# EAGLE library part MA03-2 (library JeeLabs)
PIN HEADER
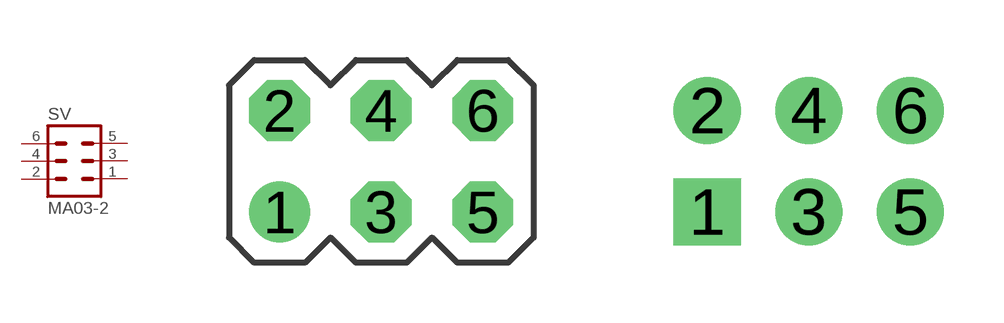
[diagram p13: symbol with the pads of MA03-2; footprints MA03-2, MA03-2-0.8]

Designator prefix SV

## MA03-2  [MA03-2]
1  1  pas
2  2  pas
3  3  pas
4  4  pas
5  5  pas
6  6  pas

## MA03-2S  [MA03-2-0.8]
Pads as for MA03-2

## Footprint MA03-2 (pad centres in mm)
PIN HEADER
drill 1.016: 1 -2.54,-1.27
drill 1.016 octagon: 2 -2.54,1.27; 3 0,-1.27; 4 0,1.27; 5 2.54,-1.27; 6 2.54,1.27

## Footprint MA03-2-0.8 (pad centres in mm)
drill 0.8 pad 1.676 square: 1 -2.54,-1.27
drill 0.8 pad 1.676: 2 -2.54,1.27; 3 0,-1.27; 4 0,1.27; 5 2.54,-1.27; 6 2.54,1.27